# EAGLE library part BQ24232HA (library TexasInstruments)
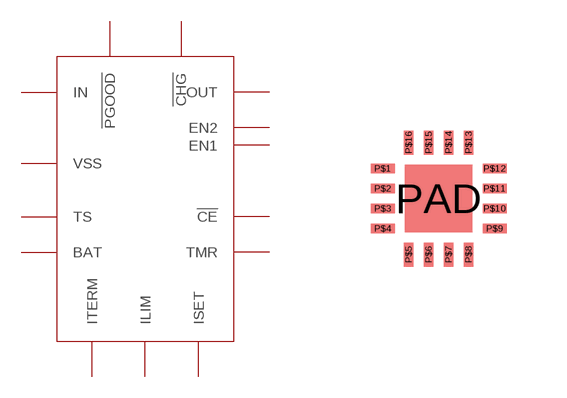
[diagram p5: symbol with the pads of BQ24232HA; footprint BQ24232HA]

Designator prefix -

## BQ24232HA  [BQ24232HA]
P$1  TS
P$2  BAT
P$3  BAT
P$4  !CE
P$5  EN2
P$6  EN1
P$7  !PGOOD
P$8  VSS
P$9  !CHG
P$10  OUT
P$11  OUT
P$12  ILIM
P$13  IN
P$14  TMR
P$15  ITERM
P$16  ISET
PAD  VSS

## Footprint BQ24232HA (pad centres in mm)
smd 0.6 x 0.24: P$1 -1.4,0.75; P$2 -1.4,0.25; P$3 -1.4,-0.25; P$4 -1.4,-0.75; P$9 1.4,-0.75; P$10 1.4,-0.25; P$11 1.4,0.25; P$12 1.4,0.75
smd 0.24 x 0.6: P$5 -0.75,-1.4; P$6 -0.25,-1.4; P$7 0.25,-1.4; P$8 0.75,-1.4; P$13 0.75,1.4; P$14 0.25,1.4; P$15 -0.25,1.4; P$16 -0.75,1.4
smd 1.68 x 1.68: PAD 0,0